# Altium footprint library Booster.PcbLib: 30 footprints (part 1 of 2)
Each footprint in its own frame and in the unit in brackets; x right, y up, seen from the top. Pads: shape width x height; smd on the part's side, far side on the other; paste and mask are expansions set on the pad; w line width, h text height; cw(c..) or ccw(c..) is an arc to the next point about the centre after c.
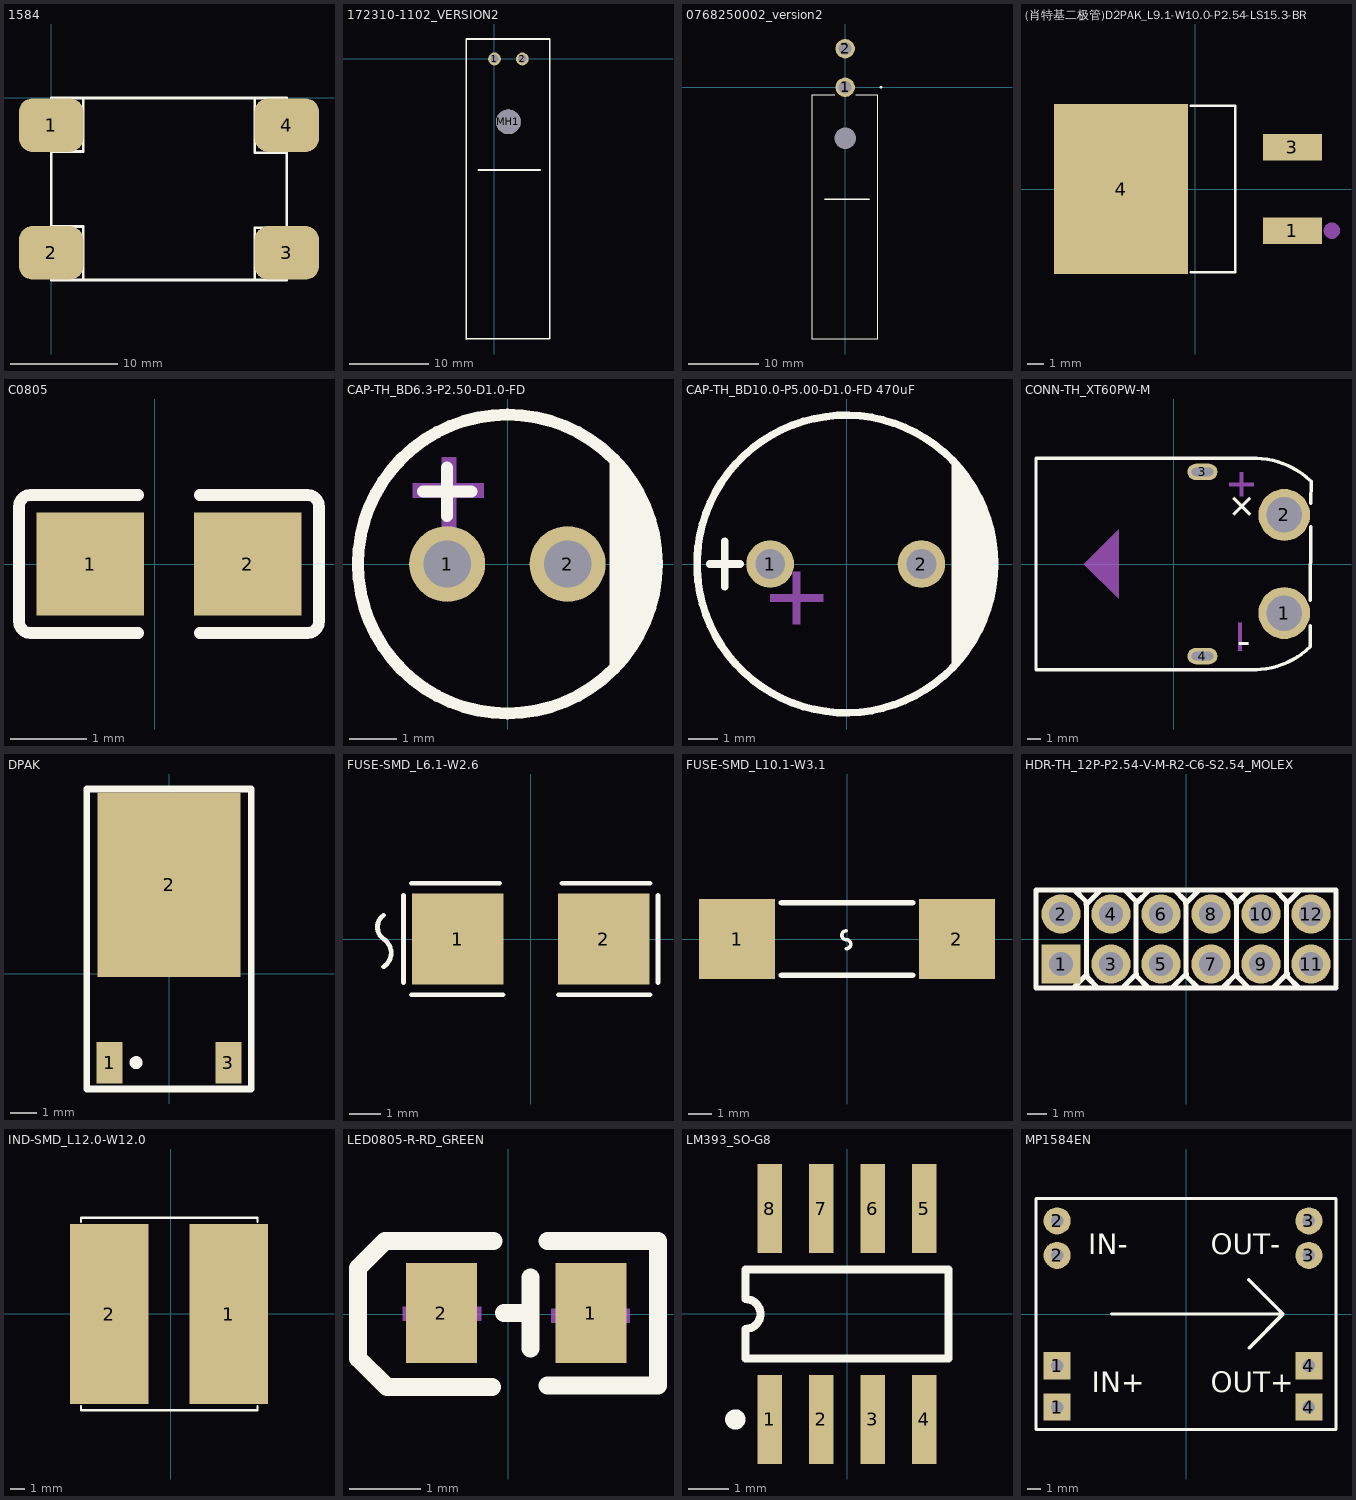
[diagram p0: the footprints below, top view; thin cyan lines are the x and y axes]

## 1584 [mm] "5V   3.3V 12V稳压模块"
pads (4):
  rrect50% 6x5 smd: 1(0,-2.54) 2(0,-14.46) 3(22,-14.46) 4(22,-2.54)
Top Overlay:
  lines w0.254: 0,-12 3,-12 3,-16.97 ; 0,-5 3,-5 3,-0.048 ; 19,-16.923 19,-12.109 22,-12.109 ; 19,-0.177 19,-5.109 22,-5.109 ; 0,-17 22,-17 22,0 0,0 0,-17

## 172310-1102_VERSION2 [mm]
pads (3):
  round 1.61 hole 1.06: 1(0,0) 2(3.5,0)
  round 3.09 hole 3.09: MH1(1.75,-7.91)
Top Overlay:
  lines w0.2: -3.536,-35.165 6.929,-35.132 6.929,2.5 -3.536,2.5 -3.536,-35.165
  lines w0.254: -2.037,-13.953 5.71,-13.953
3D body "172310-1102.stp": height 8.67, standoff -3.49, extent -2.904,-15.18 6.096,0.448

## 0768250002_version2 [mm]
pads (3):
  round 2.775 hole 1.85: 1(0,0) 2(0,5.5)
  round 1.525 hole 3.05: MH1(0,-7.3)
Top Overlay:
  lines w0.1: -4.675,-35.934 -4.675,-1.1 -1.5,-1.1 ; -4.675,-35.9 4.675,-35.9 4.675,-1.1 1.5,-1.1
  lines w0.2: 5.1,-0.1 ccw(c5.1,0) 5.1,0.1 ccw(c5.1,0) 5.1,-0.1
  lines w0.254: -2.912,-15.995 3.438,-15.995
3D body "76825.step": height 14.55, standoff -3.59, extent -4.158,-15.934 4.191,6.028

## (肖特基二极管)D2PAK_L9.1-W10.0-P2.54-LS15.3-BR [mm]
pads (3):
  rect 3.581x1.6 smd: 1(5.932,-2.54) 3(5.932,2.54)
  rect 8.153x10.369 smd: 4(-4.506,0)
Top Overlay:
  lines w0.152: -0.278,-5.061 2.441,-5.061 2.441,5.061 -0.278,5.061
Mechanical 15:
  circle w0.5: c8.333,-2.54 r0.25
3D body "User_Library-d2pak_a.step": height 4.53, standoff 0, extent -8.565,-5.1 6.442,5.1

## C0805 [mm]
pads (2):
  rect 1.41x1.35 smd: 1(-0.843,0) 2(1.217,0)
Top Overlay:
  lines w0.152: -0.215,-0.904 -1.625,-0.904 cw(c-1.625,-0.751) -1.777,-0.751 -1.777,0.751 cw(c-1.625,0.751) -1.625,0.904 -0.215,0.904 ; 0.588,-0.904 1.998,-0.904 ccw(c1.998,-0.751) 2.15,-0.751 2.15,0.751 ccw(c1.998,0.751) 1.998,0.904 0.588,0.904
Top Paste:
  region: 0.662,-0.62 0.662,-0.2 1.107,-0.2 1.107,0.25 0.667,0.25 0.662,0.66 0.712,0.71 1.862,0.71 1.912,0.66 1.912,-0.62 1.862,-0.67 0.712,-0.67
  region: -1.488,-0.62 -1.488,0.66 -1.438,0.71 -0.288,0.71 -0.238,0.66 -0.233,0.25 -0.683,0.25 -0.683,-0.2 -0.243,-0.2 -0.238,-0.62 -0.288,-0.67 -1.438,-0.67
3D body "C0805.stp": height 0.88, standoff 0, extent -0.973,-0.688 1.227,0.762

## CAP-TH_BD6.3-P2.50-D1.0-FD [mm]
pads (2):
  round 1.6 hole 1: 1(-1.28,0) 2(1.26,0)
Top Overlay:
  circle w0.254: c-0.01,0 r3.15
  region: 2.149,2.286 2.309,2.142 2.585,1.812 2.812,1.447 2.987,1.054 3.105,0.641 3.165,0.215 3.165,-0.215 3.105,-0.641 2.987,-1.054 2.812,-1.447 2.585,-1.812 2.309,-2.142 2.149,-2.286
  lines w0.254: -1.788,1.524 -0.772,1.524 ; -1.28,1.016 -1.28,2.032
Mechanical 15:
  region: -1.391,0.752 -1.391,2.252 -1.091,2.252 -1.091,0.752
  region: -2.01,1.7 -0.51,1.7 -0.51,1.4 -2.01,1.4
3D body "User_Library-Cap_electro_6_3x11x2_5mm.step": height 11.04, standoff -3.5, extent -3.175,-3.175 3.176,3.176

## CAP-TH_BD10.0-P5.00-D1.0-FD 470uF [mm]
pads (2):
  round 1.6 hole 1: 1(-2.578,0) 2(2.502,0)
Top Overlay:
  circle w0.254: c-0.038,0 r5
  region: 3.518,3.556 3.518,-3.556 4.28,-2.54 4.788,-1.016 5.042,0.508 4.788,1.524
  lines w0.254: -4.61,0 -3.594,0 ; -4.102,-0.762 -4.102,0.762
Mechanical 15:
  region: -2.578,-1.016 -0.8,-1.016 -0.8,-1.27 -2.578,-1.27
  region: -1.816,-0.762 -1.816,-2.032 -1.562,-2.032 -1.562,-0.254 -1.816,-0.254
3D body "User_Library-470uF_10V_8x11_5mm.step": height 11.01, standoff -4.79, extent -4.152,-4.127 3.873,3.873

## CONN-TH_XT60PW-M [mm]
pads (4):
  round 3.8 hole 2.6: 1(8.117,-3.6) 2(8.117,3.6)
  oval 2.2x1.2 hole 0.6 slot 1.6 at 0 deg: 3(2.117,6.75) 4(2.117,-6.75)
Top Overlay:
  lines w0.254: 6.006,-7.747 ccw(c5.864,-1.749) 10.035,-6.062 ; 6.054,7.747 cw(c5.912,1.749) 10.083,6.062 10.074,4.441 ; 6.117,-7.75 -10.083,-7.75 -10.083,7.75 6.117,7.75 ; 10.019,-5.994 10.027,-4.544 ; 10.037,-2.676 10.065,2.738
  text "-" at 5.674,-5.08 h2.03
  text "+" at 5.209,5.672 h2.03
Mechanical 15:
  region: -4.027,2.54 -4.027,-2.54 -6.567,0
  region: 4.864,6.731 5.118,6.731 5.118,5.969 5.88,5.969 5.88,5.715 5.118,5.715 5.118,4.953 4.864,4.953 4.864,5.715 4.102,5.715 4.102,5.969 4.864,5.969
  region: 4.737,-4.318 4.991,-4.318 4.991,-6.35 4.737,-6.35
3D body "User_Library-XT60PW-M20_Connector.step": height 8.51, standoff -2.89, extent -8.438,-8 9.962,8

## DPAK [mm] "D-PAK/TO-252-AA;"
height 2.38
pads (3):
  rect 1x1.6 smd: 1(-2.285,-3.425) 3(2.285,-3.425)
  rect 5.5x7.1 smd: 2(0,3.425)
Top Overlay:
  circle w0.25: c-1.268,-3.429 r0.125
  lines w0.254: -3.175,-4.445 -3.175,-4.191 -3.175,6.809 -3.175,7.112 3.175,7.112 3.175,6.858 3.175,-4.142 3.175,-4.445 -3.175,-4.445
3D body "User_Library-DPAK-1.step": height 2.3, standoff -0.12, extent -3.27,-2.89 3.27,7.048

## FUSE-SMD_L6.1-W2.6 [mm]
pads (2):
  rect 2.91x2.911 smd: 1(-2.333,0) 2(2.327,0)
Top Overlay:
  lines w0.152: -4.702,-0.889 ccw(c-4.99,-0.445) -4.702,0 cw(c-4.432,0.381) -4.702,0.762 ; -4.067,-1.401 -4.067,1.393 ; -3.813,-1.778 -0.892,-1.778 ; -3.813,1.778 -1.005,1.778 ; 0.886,-1.778 3.807,-1.778 ; 0.998,1.778 3.807,1.778 ; 4.061,-1.397 4.061,1.397
Top Paste:
  region: -0.878,-1.355 -0.878,-0.595 -0.978,-0.495 -1.768,-0.495 -1.868,-0.395 -1.868,0.395 -1.768,0.495 -0.978,0.495 -0.878,0.595 -0.878,1.355 -0.978,1.455 -3.688,1.455 -3.788,1.355 -3.788,-1.355 -3.688,-1.455 -0.978,-1.455
  region: 0.872,-1.355 0.872,-0.595 0.972,-0.495 1.761,-0.495 1.861,-0.395 1.861,0.395 1.761,0.495 0.972,0.495 0.872,0.595 0.872,1.355 0.972,1.455 3.682,1.455 3.782,1.355 3.782,-1.355 3.682,-1.455 0.972,-1.455
3D body "Fuse2.step": height 2.49, standoff -0.11, extent -3.05,-1.33 3.05,1.27

## FUSE-SMD_L10.1-W3.1 [mm]
pads (2):
  rect 3.25x3.43 smd: 1(-4.7,0) 2(4.7,0)
Top Overlay:
  lines w0.152: -0.03,-0.411 ccw(c-0.03,-0.221) -0.03,-0.03 cw(c-0.03,0.16) -0.03,0.351
  lines w0.254: -2.8,-1.55 2.8,-1.55 ; -2.8,1.55 2.8,1.55
3D body "User Library-36CFA.STEP": height 3.6, standoff 0, extent -5.754,-1.822 5.246,1.778

## HDR-TH_12P-P2.54-V-M-R2-C6-S2.54_MOLEX [mm]
pads (12):
  rect 2x2 hole 1.2: 1(-6.35,-1.27)
  round 2 hole 1.2: 2(-6.35,1.27) 3(-3.81,-1.27) 4(-3.81,1.27) 5(-1.27,-1.27) 6(-1.27,1.27) 7(1.27,-1.27) 8(1.27,1.27) 9(3.81,-1.27) 10(3.81,1.27) 11(6.35,-1.27) 12(6.35,1.27)
Top Overlay:
  lines w0.254: -5.739,-2.5 -5.039,-1.8 -5.025,-1.8 -5.025,-1.927 -4.452,-2.5 ; -5.643,2.465 -5.07,1.892 -5.07,1.765 -5.056,1.765 ; -5.056,-1.875 -5.056,1.765 ; -4.356,2.465 -5.056,1.765 ; -3.219,-2.465 -2.519,-1.765 -2.505,-1.765 -2.505,-1.892 -1.932,-2.465 ; -3.123,2.5 -2.55,1.927 -2.55,1.8 -2.536,1.8 ; -2.536,-1.84 -2.536,1.8 ; -1.836,2.5 -2.536,1.8 ; -0.694,-2.465 0.006,-1.765 0.02,-1.765 0.02,-1.892 0.593,-2.465 ; -0.598,2.5 -0.025,1.927 -0.025,1.8 -0.011,1.8 ; -0.011,-1.84 -0.011,1.8 ; 0.689,2.5 -0.011,1.8 ; 1.881,-2.465 2.581,-1.765 2.595,-1.765 2.595,-1.892 3.168,-2.465 ; 1.977,2.5 2.55,1.927 2.55,1.8 2.564,1.8 ; 2.564,-1.84 2.564,1.8 ; 3.264,2.5 2.564,1.8 ; 4.431,-2.465 5.131,-1.765 5.145,-1.765 5.145,-1.892 5.718,-2.465 ; 4.527,2.5 5.1,1.927 5.1,1.8 5.114,1.8 ; 5.114,-1.84 5.114,1.8 ; 5.814,2.5 5.114,1.8 ; 7.62,-2.5 -7.62,-2.5 -7.62,2.5 -4.522,2.5 -4.486,2.464 -4.486,2.5 7.62,2.5 7.62,-2.362
3D body "HEADER 6X2.STEP": height 10.11, standoff -1.49, extent -7.62,-2.54 7.62,2.54

## IND-SMD_L12.0-W12.0 [mm]
pads (2):
  rect 5.424x12.42 smd: 1(4.021,-0.023) 2(-4.235,-0.023)
Top Overlay:
  lines w0.152: -6.164,-6.373 -6.164,-6.659 5.989,-6.659 5.989,-6.373 ; -6.164,6.327 -6.164,6.613 5.989,6.613 5.989,6.327
3D body "(68uH电感)CDRH127_LDNP-151MC.stp": height 8.1, standoff 0, extent -5.983,-6 6.237,6

## LED0805-R-RD_GREEN [mm]
pads (2):
  rect 1x1.4 smd: 1(1.166,0.014) 2(-0.935,0.014)
Top Overlay:
  lines w0.254: -0.229,-1.029 -1.702,-1.029 -2.108,-0.622 -2.108,0.648 -1.727,1.029 -0.203,1.029 ; -0.053,0.014 0.216,0.014 ; 0.316,-0.486 0.316,0.514 ; 0.559,-1.003 2.108,-1.003 2.108,1.029 0.559,1.029
Mechanical 15:
  region: 1.057,-0.542 1.057,0.558 1.257,0.558 1.257,-0.542
  region: 0.61,0.074 1.71,0.074 1.71,-0.126 0.61,-0.126
  region: -0.379,-0.095 -1.479,-0.095 -1.479,0.105 -0.379,0.105
3D body "User_Library-User_Library-led_0805_GRE.step": height 1.1, standoff 0, extent -0.883,-0.625 1.137,0.625

## LM393_SO-G8 [mm] "Small Outline; 8 Leads; Body Width 3.9 mm; Pitch 1.27 mm"
height 1.75
pads (8):
  rect 0.6x2.2 smd: 1(-1.905,-2.6) 2(-0.635,-2.6) 3(0.635,-2.6) 4(1.905,-2.6) 5(1.905,2.6) 6(0.635,2.6) 7(-0.635,2.6) 8(-1.905,2.6)
Top Overlay:
  circle w0.25: c-2.755,-2.6 r0.125
  lines w0.2: -2.5,-0.367 -2.5,-1.1 2.5,-1.1 2.5,1.1 -2.5,1.1 -2.5,0.367 ; -2.5,-0.367 ccw(c-2.5,0) -2.5,0.367
3D body "lm393ad.stp": height 1.56, standoff -0.17, extent -2.488,-3.138 2.413,2.884

## MP1584EN [mm]
pads (8):
  rect 2x2 hole 0.914: 1(-9.49,-6.858) 1(-9.49,-3.809) 4(9.049,-3.81) 4(9.052,-6.858)
  round 2 hole 0.914: 2(-9.49,4.318) 2(-9.49,6.858) 3(9.052,4.318) 3(9.052,6.858)
Top Overlay:
  lines w0.254: -5.453,0 7.145,0 4.646,-2.502 ; 4.624,2.52 7.126,0.02 ; -11.049,-8.509 -11.049,8.509 11.049,8.509 11.049,-8.509 -11.049,-8.509
  text "OUT-" at 1.81,4.401 h1.5
  text "OUT+" at 1.811,-5.76 h1.5
  text "IN-" at -7.205,4.401 h1.5
  text "IN+" at -6.951,-5.759 h1.5
3D body "User_Library-MP1584EN.step": height 3, standoff -9.64, extent -11.071,-8.546 10.929,8.454